# Altium footprint library G2RL2ADC12.PcbLib: 1 footprints
Each footprint in its own frame and in the unit in brackets; x right, y up, seen from the top. Pads: shape width x height; smd on the part's side, far side on the other; paste and mask are expansions set on the pad; w line width, h text height; cw(c..) or ccw(c..) is an arc to the next point about the centre after c.
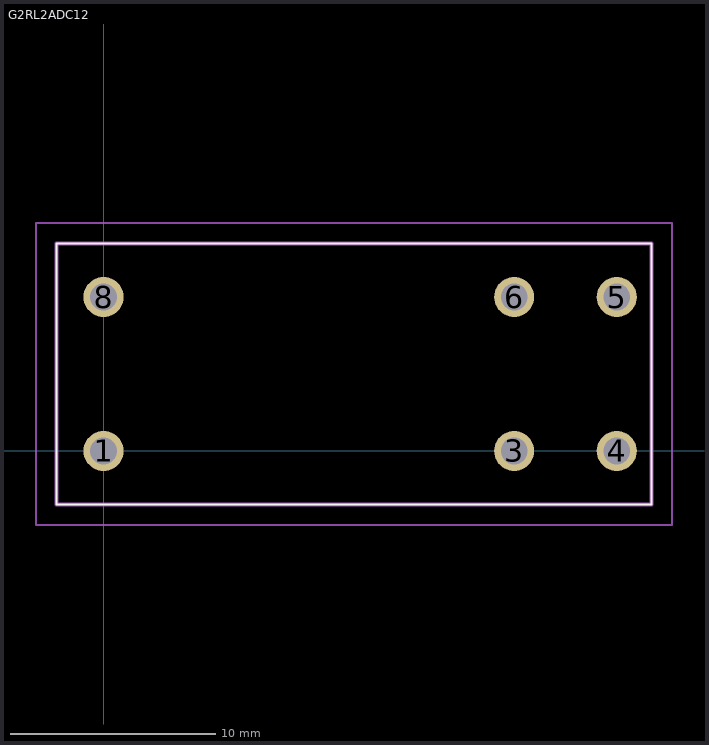
[diagram p0: the footprint, top view; thin cyan lines are the x and y axes]

## G2RL2ADC12 [mm]
pads (6):
  round 1.95 hole 1.3: 1(0,0) 3(20,0) 4(25,0) 5(25,7.5) 6(20,7.5) 8(0,7.5)
L26-Silk Screen Top (Multiple PADS layers...):
  lines w0.1: -2.3,-2.6 26.7,-2.6 26.7,10.1 -2.3,10.1 -2.3,-2.6
L15 (Multiple PADS layers...):
  lines w0.2: -2.3,-2.6 26.7,-2.6 26.7,10.1 -2.3,10.1 -2.3,-2.6
L20:
  lines w0.1: -3.3,-3.6 27.7,-3.6 27.7,11.1 -3.3,11.1 -3.3,-3.6
3D body "G2RL-2A-DC12.stp": height 15.7, standoff -5, extent -2.3,-2.6 26.7,10.1